# Altium footprint library SN74LVC3G07QDCURQ1.PcbLib: 3 footprints
Each footprint in its own frame and in the unit in brackets; x right, y up, seen from the top. Pads: shape width x height; smd on the part's side, far side on the other; paste and mask are expansions set on the pad; w line width, h text height; cw(c..) or ccw(c..) is an arc to the next point about the centre after c.
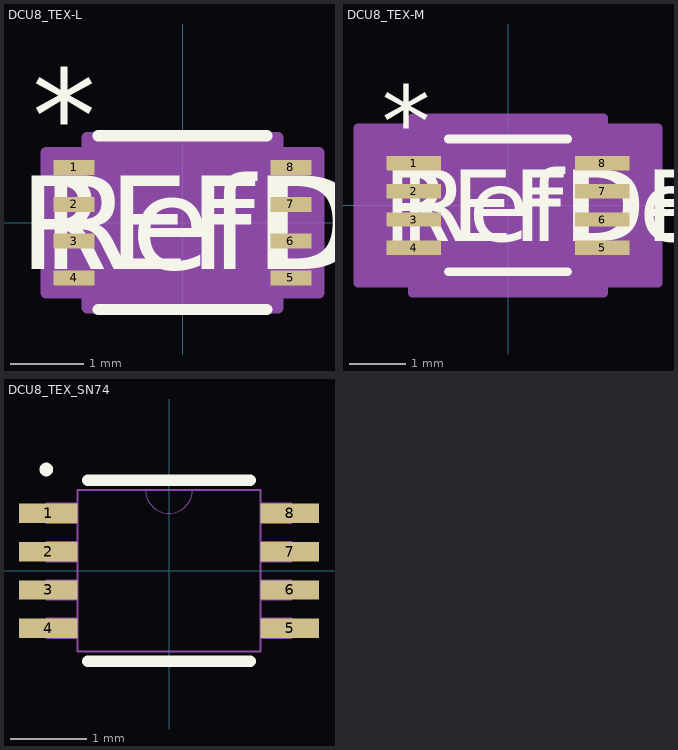
[diagram p0: the footprints below, top view; thin cyan lines are the x and y axes]

## DCU8_TEX-L [mil]
pads (8):
  rect 22x8 smd paste+0 mask+0: 1(-58,29.53) 2(-58,9.84) 3(-58,-9.84) 4(-58,-29.53) 5(58,-29.53) 6(58,-9.84) 7(58,9.84) 8(58,29.53)
Top Overlay:
  lines w6: -45.18,-46.5 45.18,-46.5 ; -45.18,46.5 45.18,46.5
  text "REFDES" at -87.5,-25 h50
  text "*" at -80.5,32.53 h50
  text "RefDes" at -75,-25 h50
Mechanical 13:
  lines w0: -12,41.5 ccw(c0,41.5) 12,41.5
  lines w1: -63,-34.53 -63,-24.53 -47,-24.53 -47,-34.53 -63,-34.53 ; -63,-14.84 -63,-4.84 -47,-4.84 -47,-14.84 -63,-14.84 ; -63,4.84 -63,14.84 -47,14.84 -47,4.84 -63,4.84 ; -63,24.53 -63,34.53 -47,34.53 -47,24.53 -63,24.53 ; -47,-41.5 47,-41.5 47,41.5 -47,41.5 -47,-41.5 ; 47,-34.53 47,-24.53 63,-24.53 63,-34.53 47,-34.53 ; 47,-14.84 47,-4.84 63,-4.84 63,-14.84 47,-14.84 ; 47,4.84 47,14.84 63,14.84 63,4.84 47,4.84 ; 47,24.53 47,34.53 63,34.53 63,24.53 47,24.53
  text "*" at -44.5,-11.5 h50
  text "RefDes2" at -87.5,-25 h50
Mechanical 15:
  region: -51,-37.53 -73,-37.53 -73,37.53 -51,37.53 -51,45.5 51,45.5 51,37.53 73,37.53 73,-37.53 51,-37.53 51,-45.5 -51,-45.5
  lines w6: -73,-37.53 -73,37.53 -51,37.53 -51,45.5 51,45.5 51,37.53 73,37.53 73,-37.53 51,-37.53 51,-45.5 -51,-45.5 -51,-37.53 -73,-37.53
3D body "DCU8_TEX.step": height 35.12, standoff 0, extent -62.99,-41.5 62.99,41.5

## DCU8_TEX-M [mil]
pads (8):
  rect 38x10 smd paste+0 mask+0: 1(-66,29.53) 2(-66,9.84) 3(-66,-9.84) 4(-66,-29.53) 5(66,-29.53) 6(66,-9.84) 7(66,9.84) 8(66,29.53)
Top Overlay:
  lines w6: -41.68,-46.5 41.68,-46.5 ; -41.68,46.5 41.68,46.5
  text "REFDES" at -87.5,-25 h50
  text "*" at -88.5,34.53 h50
  text "RefDes" at -75,-25 h50
Mechanical 13:
  lines w0: -12,41.5 ccw(c0,41.5) 12,41.5
  lines w1: -63,-34.53 -63,-24.53 -47,-24.53 -47,-34.53 -63,-34.53 ; -63,-14.84 -63,-4.84 -47,-4.84 -47,-14.84 -63,-14.84 ; -63,4.84 -63,14.84 -47,14.84 -47,4.84 -63,4.84 ; -63,24.53 -63,34.53 -47,34.53 -47,24.53 -63,24.53 ; -47,-41.5 47,-41.5 47,41.5 -47,41.5 -47,-41.5 ; 47,-34.53 47,-24.53 63,-24.53 63,-34.53 47,-34.53 ; 47,-14.84 47,-4.84 63,-4.84 63,-14.84 47,-14.84 ; 47,4.84 47,14.84 63,14.84 63,4.84 47,4.84 ; 47,24.53 47,34.53 63,34.53 63,24.53 47,24.53
  text "*" at -44.5,-11.5 h50
  text "RefDes2" at -87.5,-25 h50
Mechanical 15:
  region: -67,-54.53 -105,-54.53 -105,54.53 -67,54.53 -67,61.5 67,61.5 67,54.53 105,54.53 105,-54.53 67,-54.53 67,-61.5 -67,-61.5
  lines w6: -105,-54.53 -105,54.53 -67,54.53 -67,61.5 67,61.5 67,54.53 105,54.53 105,-54.53 67,-54.53 67,-61.5 -67,-61.5 -67,-54.53 -105,-54.53
3D body "DCU8_TEX.step": height 35.12, standoff 0, extent -62.99,-41.5 62.99,41.5

## DCU8_TEX_SN74 [mil]
pads (8):
  rect 30x10 smd paste+0 mask+0: 1(-62,29.53) 2(-62,9.84) 3(-62,-9.84) 4(-62,-29.53) 5(62,-29.53) 6(62,-9.84) 7(62,9.84) 8(62,29.53)
Top Overlay:
  circle w5: c-63,52 r1
  lines w6: -41.68,-46.5 41.68,-46.5 ; -41.68,46.5 41.68,46.5
Mechanical 13:
  lines w0: -12,41.5 ccw(c0,41.5) 12,41.5
  lines w1: -63,-34.53 -63,-24.53 -47,-24.53 -47,-34.53 -63,-34.53 ; -63,-14.84 -63,-4.84 -47,-4.84 -47,-14.84 -63,-14.84 ; -63,4.84 -63,14.84 -47,14.84 -47,4.84 -63,4.84 ; -63,24.53 -63,34.53 -47,34.53 -47,24.53 -63,24.53 ; -47,-41.5 47,-41.5 47,41.5 -47,41.5 -47,-41.5 ; 47,-34.53 47,-24.53 63,-24.53 63,-34.53 47,-34.53 ; 47,-14.84 47,-4.84 63,-4.84 63,-14.84 47,-14.84 ; 47,4.84 47,14.84 63,14.84 63,4.84 47,4.84 ; 47,24.53 47,34.53 63,34.53 63,24.53 47,24.53
3D body "DCU8_TEX.step": height 35.12, standoff 0, extent -62.99,-41.5 62.99,41.5